# Altium schematic symbol library E 二极管.SCHLIB: 11 symbols
Pins are listed as number, name and electrical type; pins without a type are passive.

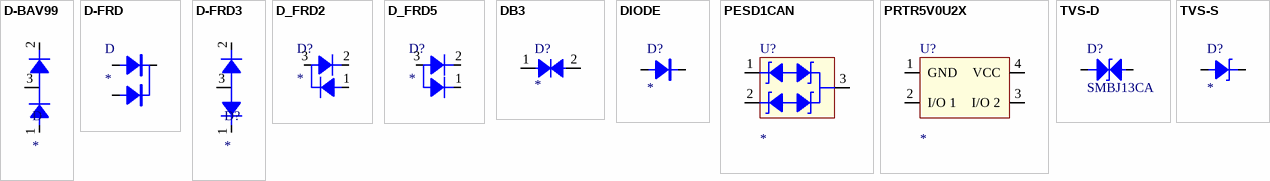
[diagram p0: symbols D-BAV99 to TVS-S]

## D-BAV99
designator D
pins: 1, 2, 3

## D-FRD
designator D
pins: 1, 2, 3

## D-FRD3
designator D?
pins: 1, 2, 3

## D_FRD2
designator D?
pins: 1, 2, 3

## D_FRD5
designator D?
pins: 1, 2, 3

## DB3
designator D?
双向二极管
pins: 1, 2

## DIODE
designator D?
二极管
pins: 1, 2

## PESD1CAN
designator U?
pins: 1, 2, 3

## PRTR5V0U2X
designator U?
pins: 1 GND, 2 I/O 1, 3 I/O 2, 4 VCC

## TVS-D
designator D?, comment SMBJ13CA
双向TVS
pins: A, K

## TVS-S
designator D?
单向TVS
pins: 1, 2